# Altium footprint library DC_DC_converter.PcbLib: 2 footprints
Each footprint in its own frame and in the unit in brackets; x right, y up, seen from the top. Pads: shape width x height; smd on the part's side, far side on the other; paste and mask are expansions set on the pad; w line width, h text height; cw(c..) or ccw(c..) is an arc to the next point about the centre after c.
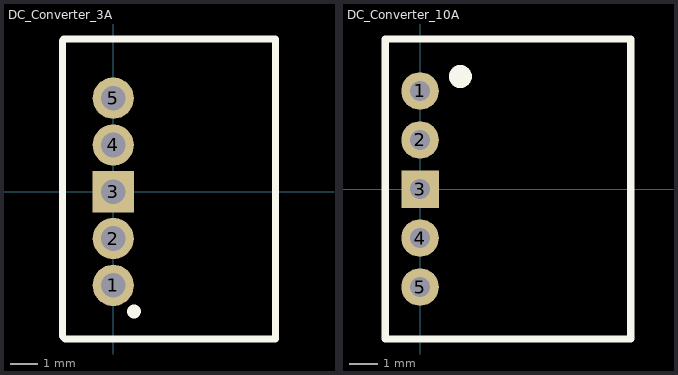
[diagram p0: the footprints below, top view; thin cyan lines are the x and y axes]

## DC_Converter_3A [mm] "Throu-Hole size10.4x5.6padding1.7"
height 16.5
pads (5):
  round 1.5 hole 0.9: 1(0,-3.4) 2(0,-1.7) 4(0,1.7) 5(0,3.4)
  rect 1.5x1.5 hole 0.9: 3(0,0)
Top Overlay:
  circle w0.4: c0.75,-4.35 r0.05
  lines w0.254: -1.85,-5.25 -1.75,-5.35 5.9,-5.35 5.9,5.05 5.9,5.55 -1.8,5.55 -1.85,5.5 -1.85,-5.25

## DC_Converter_10A [mm] "Throu-Hole size10.4x8.43padding1.74"
height 16.5
pads (5):
  round 1.3 hole 0.7: 1(0,3.4) 2(0,1.7) 4(0,-1.7) 5(0,-3.4)
  rect 1.3x1.3 hole 0.7: 3(0,0)
Top Overlay:
  circle w0.4: c1.4,3.9 r0.2
  lines w0.254: -1.2,-5.2 -1.2,5.2 7.3,5.2 7.3,-5.2 -1.2,-5.2